# Altium schematic symbol library 74LVC2G00GT_115.SchLib: 1 symbol
Pins are listed as number, name and electrical type; pins without a type are passive.

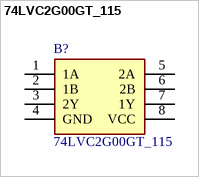
[diagram p0: symbol 74LVC2G00GT_115]

## 74LVC2G00GT_115
designator B?
74LVC2G00 - Dual 2-input NAND gate@en-us; Manufacturer_Name: Nexperia; Manufacturer_Part_Number: 74LVC2G00GT,115; Geometry.Height: 0.5mm; Mouser Part Number: 771-LVC2G00GT115; Mouser Price/Stock: https://www.mouser.co.uk/ProductDetail/Nexperia/74LVC2G00GT115/?qs=me8TqzrmIYWD5dayJ1NSYA%3D%3D; Datasheet Link: https://assets.nexperia.com/documents/data-sheet/74LVC2G00.pdf
footprint 74AVC9112GTX
pins: 1 1A, 2 1B, 3 2Y, 4 GND, 5 2A, 6 2B, 7 1Y, 8 VCC